# EAGLE library part CONN-8-? (library connectors)
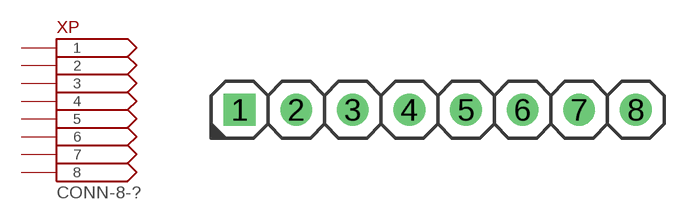
[diagram p7: symbol with the pads of MA03-8; footprint MA03-8]

Designator prefix XP

## CONN-8-NORMAL  [MA03-8]
1  1  pas
2  2  pas
3  3  pas
4  4  pas
5  5  pas
6  6  pas
7  7  pas
8  8  pas

## Footprint MA03-8 (pad centres in mm)
drill 0.914 square: 1 0,0
drill 0.914: 2 2.54,0; 3 5.08,0; 4 7.62,0; 5 10.16,0; 6 12.7,0; 7 15.24,0; 8 17.78,0